# EAGLE library part CONN-12 (library Hoektronics)
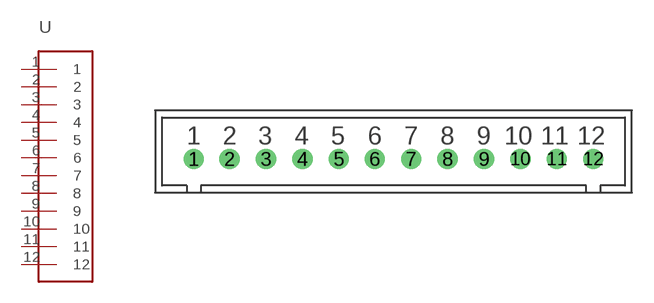
[diagram p20: symbol with the pads of XH-12; footprint XH-12]

Designator prefix -

## CONN-12  [XH-12]
1  1
2  2
3  3
4  4
5  5
6  6
7  7
8  8
9  9
10  10
11  11
12  12

## Footprint XH-12 (pad centres in mm)
drill 0.9: 1 -6.31,0; 2 -3.81,0; 3 -1.27,0; 4 1.27,0; 5 3.81,0; 6 6.31,0; 7 8.85,0; 8 11.39,0; 9 13.93,0; 10 16.47,0; 11 19.01,0; 12 21.55,0